# Altium schematic symbol library Memory ICs.SchLib: 3 symbols
Pins are listed as number, name and electrical type; pins without a type are passive.

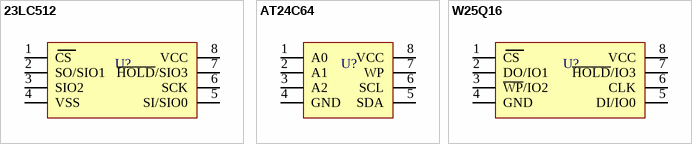
[diagram p0: symbols 23LC512 to W25Q16]

## 23LC512
designator U?
footprint SOP-8
pins: 1 CS, 2 SO/SIO1, 3 SIO2, 4 VSS, 5 SI/SIO0, 6 SCK, 7 ~{HOLD}/SIO3, 8 VCC

## AT24C64
designator U?  (value not drawn)
footprint SOP-8
pins: 1 A0, 2 A1, 3 A2, 4 GND, 5 SDA, 6 SCL, 7 WP, 8 VCC

## W25Q16
designator U?  (value not drawn)
footprint SOIC-8-W
pins: 1 CS, 2 DO/IO1, 3 ~{WP}/IO2, 4 GND, 5 DI/IO0, 6 CLK, 7 ~{HOLD}/IO3, 8 VCC